# Altium footprint library FL2500038.PcbLib: 3 footprints
Each footprint in its own frame and in the unit in brackets; x right, y up, seen from the top. Pads: shape width x height; smd on the part's side, far side on the other; paste and mask are expansions set on the pad; w line width, h text height; cw(c..) or ccw(c..) is an arc to the next point about the centre after c.
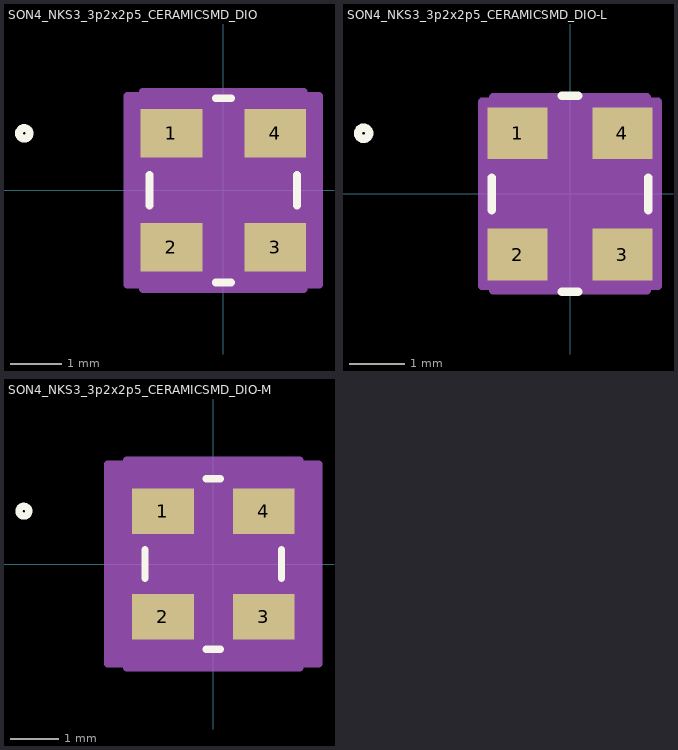
[diagram p0: the footprints below, top view; thin cyan lines are the x and y axes]

## SON4_NKS3_3p2x2p5_CERAMICSMD_DIO [mm]
pads (4):
  rect 1.189x0.941 smd paste+0 mask+0: 1(-1.001,1.1) 2(-1.001,-1.1) 3(1.001,-1.1) 4(1.001,1.1)
Top Overlay:
  circle w0.152: c-3.846,1.1 r0.102
  lines w0.152: -1.422,-0.297 -1.422,0.297 ; -0.146,-1.778 0.146,-1.778 ; -0.146,1.778 0.146,1.778 ; 1.422,-0.297 1.422,0.297
  text ".Designator" at -3.492,-0.635 h1.27
Mechanical 13:
  circle w0.025: c-0.406,1.1 r0.076
  lines w0.025: -0.305,1.651 ccw(c0,1.651) 0.305,1.651 ; -1.295,-1.651 1.295,-1.651 1.295,1.651 -1.295,1.651 -1.295,-1.651
  text ".Designator" at -3.492,-0.635 h1.27
Mechanical 15:
  region: -1.549,-1.824 -1.849,-1.824 -1.849,1.824 -1.549,1.824 -1.549,1.905 1.549,1.905 1.549,1.824 1.849,1.824 1.849,-1.824 1.549,-1.824 1.549,-1.905 -1.549,-1.905
  lines w0.152: -1.849,-1.824 -1.849,1.824 -1.549,1.824 -1.549,1.905 1.549,1.905 1.549,1.824 1.849,1.824 1.849,-1.824 1.549,-1.824 1.549,-1.905 -1.549,-1.905 -1.549,-1.824 -1.849,-1.824
3D body "SON4_NKS3_3p2x2p5_CERAMICSMD_DIO.step": height 0.79, standoff 0, extent -1.295,-1.651 1.295,1.651

## SON4_NKS3_3p2x2p5_CERAMICSMD_DIO-L [mm]
pads (4):
  rect 1.089x0.941 smd paste+0 mask+0: 1(-0.951,1.1) 2(-0.951,-1.1) 3(0.951,-1.1) 4(0.951,1.1)
Top Overlay:
  circle w0.152: c-3.746,1.1 r0.102
  lines w0.152: -1.422,-0.297 -1.422,0.297 ; -0.146,-1.778 0.146,-1.778 ; -0.146,1.778 0.146,1.778 ; 1.422,-0.297 1.422,0.297
  text ".Designator" at -3.492,-0.635 h1.27
Mechanical 13:
  circle w0.025: c-0.406,1.1 r0.076
  lines w0.025: -0.305,1.651 ccw(c0,1.651) 0.305,1.651 ; -1.295,-1.651 1.295,-1.651 1.295,1.651 -1.295,1.651 -1.295,-1.651
  text ".Designator" at -3.492,-0.635 h1.27
Mechanical 15:
  region: -1.397,-1.672 -1.597,-1.672 -1.597,1.672 -1.397,1.672 -1.397,1.753 1.397,1.753 1.397,1.672 1.597,1.672 1.597,-1.672 1.397,-1.672 1.397,-1.753 -1.397,-1.753
  lines w0.152: -1.597,-1.672 -1.597,1.672 -1.397,1.672 -1.397,1.753 1.397,1.753 1.397,1.672 1.597,1.672 1.597,-1.672 1.397,-1.672 1.397,-1.753 -1.397,-1.753 -1.397,-1.672 -1.597,-1.672
3D body "SON4_NKS3_3p2x2p5_CERAMICSMD_DIO.step": height 0.79, standoff 0, extent -1.295,-1.651 1.295,1.651

## SON4_NKS3_3p2x2p5_CERAMICSMD_DIO-M [mm]
pads (4):
  rect 1.289x0.941 smd paste+0 mask+0: 1(-1.051,1.1) 2(-1.051,-1.1) 3(1.051,-1.1) 4(1.051,1.1)
Top Overlay:
  circle w0.152: c-3.946,1.1 r0.102
  lines w0.152: -1.422,-0.297 -1.422,0.297 ; -0.146,-1.778 0.146,-1.778 ; -0.146,1.778 0.146,1.778 ; 1.422,-0.297 1.422,0.297
  text ".Designator" at -3.492,-0.635 h1.27
Mechanical 13:
  circle w0.025: c-0.406,1.1 r0.076
  lines w0.025: -0.305,1.651 ccw(c0,1.651) 0.305,1.651 ; -1.295,-1.651 1.295,-1.651 1.295,1.651 -1.295,1.651 -1.295,-1.651
  text ".Designator" at -3.492,-0.635 h1.27
Mechanical 15:
  region: -1.803,-2.078 -2.203,-2.078 -2.203,2.078 -1.803,2.078 -1.803,2.159 1.803,2.159 1.803,2.078 2.203,2.078 2.203,-2.078 1.803,-2.078 1.803,-2.159 -1.803,-2.159
  lines w0.152: -2.203,-2.078 -2.203,2.078 -1.803,2.078 -1.803,2.159 1.803,2.159 1.803,2.078 2.203,2.078 2.203,-2.078 1.803,-2.078 1.803,-2.159 -1.803,-2.159 -1.803,-2.078 -2.203,-2.078
3D body "SON4_NKS3_3p2x2p5_CERAMICSMD_DIO.step": height 0.79, standoff 0, extent -1.295,-1.651 1.295,1.651